# Altium schematic symbol library BC050-10A-K0-0200-0160-0480-LG.SchLib: 1 symbol
Pins are listed as number, name and electrical type; pins without a type are passive.

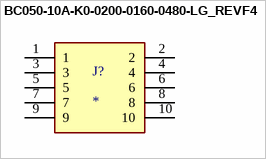
[diagram p0: symbol BC050-10A-K0-0200-0160-0480-LG_REVF4]

## BC050-10A-K0-0200-0160-0480-LG_REVF4
designator J?
MP: BC050-10A-K0-0200-0160-0480-LG_REVF4; MF: {'manufacturer': u'Global Connector Technology'}; Value: *; Package: None; Price: None; Availability: Unavailable
footprint GCT_BC050-10A-K0-0200-0160-0480-LG_REVF4
pins: 1, 2, 3, 4, 5, 6, 7, 8, 9, 10